# Altium schematic symbol library MAX6816.SchLib: 1 symbol
Pins are listed as number, name and electrical type; pins without a type are passive.

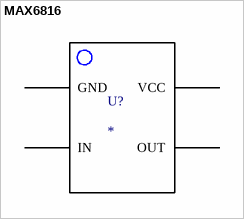
[diagram p0: symbol MAX6816]

## MAX6816
designator U?
PartNumber: MAX6816EUS+T; Manufacturer: Maxim Integrated; Supplier 1: Digi-Key; Supplier Part Number 1: MAX6816EUS+TCT-ND
footprint PCBComponent_1
pins: 1 GND, 2 IN, 3 OUT, 4 VCC